# Altium schematic symbol library ERJ-H2RD1001X.SchLib: 1 symbol
Pins are listed as number, name and electrical type; pins without a type are passive.

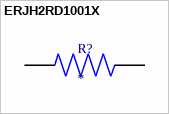
[diagram p0: symbol ERJH2RD1001X]

## ERJH2RD1001X
designator R?
MF: {'manufacturer': u'Panasonic Electronic Components'}; MP: ERJH2RD1001X; Value: *; Package: None; Price: None; Availability: Unavailable
footprint RES_ERJH2RD1001X
pins: 1, 2